# Altium footprint library SparkFun-Connectors.PCBLIB: 305 footprints (part 9 of 20)
Each footprint in its own frame and in the unit in brackets; x right, y up, seen from the top. Pads: shape width x height; smd on the part's side, far side on the other; paste and mask are expansions set on the pad; w line width, h text height; cw(c..) or ccw(c..) is an arc to the next point about the centre after c.
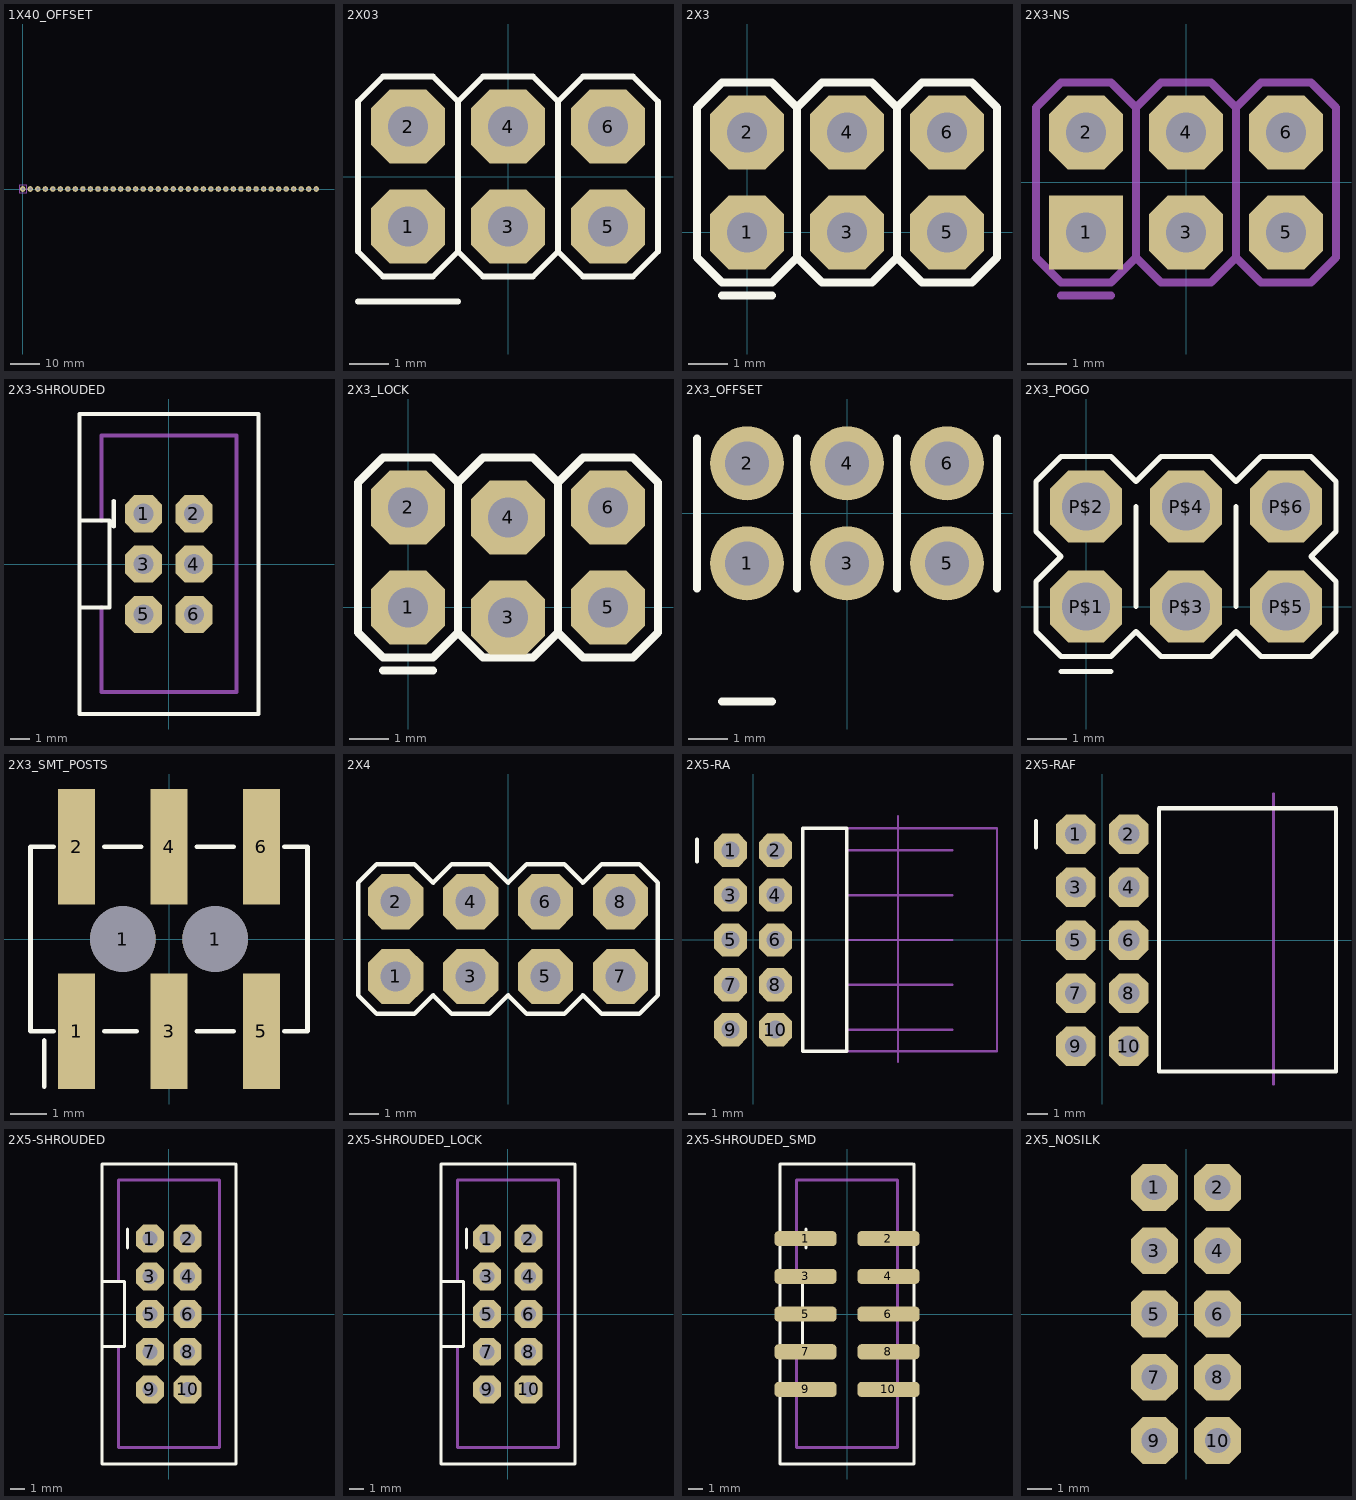
[diagram p8: the footprints below, top view; thin cyan lines are the x and y axes]

## 1X40_OFFSET [mil]
pads (40):
  round 74 hole 40: 1(0,0) 2(100,0) 3(200,0) 4(300,0) 5(400,0) 6(500,0) 7(600,0) 8(700,0) 9(800,0) 10(900,0) 11(1000,0) 12(1100,0) 13(1200,0) 14(1300,0) 15(1400,0) 16(1500,0) 17(1600,0) 18(1700,0) 19(1800,0) 20(1900,0) 21(2000,0) 22(2100,0) 23(2200,0) 24(2300,0) 25(2400,0) 26(2500,0) 27(2600,0) 28(2700,0) 29(2800,0) 30(2900,0) 31(3000,0) 32(3100,0) 33(3200,0) 34(3300,0) 35(3400,0) 36(3500,0) 37(3600,0) 38(3700,0) 39(3800,0) 40(3900,0)
Mechanical 14:
  lines w5: -50,-50 -50,50 50,50 50,-50 -50,-50
Mechanical 16:
  rectangle: 590,-10 610,10
  rectangle: 490,-10 510,10
  rectangle: 390,-10 410,10
  rectangle: 290,-10 310,10
  rectangle: 190,-10 210,10
  rectangle: 90,-10 110,10
  rectangle: -10,-10 10,10
  rectangle: 1290,-10 1310,10
  rectangle: 1190,-10 1210,10
  rectangle: 1090,-10 1110,10
  rectangle: 990,-10 1010,10
  rectangle: 890,-10 910,10
  rectangle: 790,-10 810,10
  rectangle: 690,-10 710,10
  rectangle: 1390,-10 1410,10
  rectangle: 1490,-10 1510,10
  rectangle: 1590,-10 1610,10
  rectangle: 1690,-10 1710,10
  rectangle: 1790,-10 1810,10
  rectangle: 1890,-10 1910,10
  rectangle: 2090,-10 2110,10
  rectangle: 1990,-10 2010,10
  rectangle: 2190,-10 2210,10
  rectangle: 2290,-10 2310,10
  rectangle: 2390,-10 2410,10
  rectangle: 2490,-10 2510,10
  rectangle: 2590,-10 2610,10
  rectangle: 2690,-10 2710,10
  rectangle: 2790,-10 2810,10
  rectangle: 2890,-10 2910,10
  rectangle: 2990,-10 3010,10
  rectangle: 3090,-10 3110,10
  rectangle: 3190,-10 3210,10
  rectangle: 3290,-10 3310,10
  rectangle: 3390,-10 3410,10
  rectangle: 3490,-10 3510,10
  rectangle: 3590,-10 3610,10
  rectangle: 3690,-10 3710,10
  rectangle: 3790,-10 3810,10
  rectangle: 3890,-10 3910,10

## 2X03 [mil]
pads (6):
  oct 74x74 hole 40: 1(-100,-50) 2(-100,50) 3(0,-50) 4(0,50) 5(100,-50) 6(100,50)
Top Overlay:
  lines w6: -150,-125 -50,-125 ; -50,-75 -75,-100 -125,-100 -150,-75 -150,75 -125,100 -75,100 -50,75 ; -50,-75 -25,-100 25,-100 50,-75 ; -50,-75 -50,75 ; -50,75 -25,100 25,100 50,75 ; 50,-75 50,75 ; 50,-75 75,-100 125,-100 150,-75 150,75 125,100 75,100 50,75
Mechanical 16:
  rectangle: -110,-60 -90,-40
  rectangle: -110,40 -90,60
  rectangle: -10,40 10,60
  rectangle: -10,-60 10,-40
  rectangle: 90,40 110,60
  rectangle: 90,-60 110,-40

## 2X3 [mil]
pads (6):
  oct 74x74 hole 40: 1(0,0) 2(0,100) 3(100,0) 4(100,100) 5(200,0) 6(200,100)
Top Overlay:
  lines w8: -25,-63.19 25,-63.19 ; 50,-25 25,-50 -25,-50 -50,-25 -50,125 -25,150 25,150 50,125 ; 50,-25 75,-50 125,-50 150,-25 ; 50,-25 50,125 ; 50,125 75,150 125,150 150,125 ; 150,-25 175,-50 225,-50 250,-25 250,125 225,150 175,150 150,125 ; 150,-25 150,125
Mechanical 16:
  rectangle: -10,-10 10,10
  rectangle: -10,90 10,110
  rectangle: 90,90 110,110
  rectangle: 90,-10 110,10
  rectangle: 190,90 210,110
  rectangle: 190,-10 210,10

## 2X3-NS [mil]
pads (6):
  rect 74x74 hole 40: 1(-100,-50)
  oct 74x74 hole 40: 2(-100,50) 3(0,-50) 4(0,50) 5(100,-50) 6(100,50)
Mechanical 16:
  rectangle: -110,-60 -90,-40
  rectangle: -110,40 -90,60
  rectangle: -10,40 10,60
  rectangle: -10,-60 10,-40
  rectangle: 90,40 110,60
  rectangle: 90,-60 110,-40
  lines w8: -125,-113.19 -75,-113.19 ; -50,-75 -75,-100 -125,-100 -150,-75 -150,75 -125,100 -75,100 -50,75 ; -50,-75 -25,-100 25,-100 50,-75 ; -50,-75 -50,75 ; -50,75 -25,100 25,100 50,75 ; 50,-75 75,-100 125,-100 150,-75 150,75 125,100 75,100 50,75 ; 50,-75 50,75

## 2X3-SHROUDED [mil]
pads (6):
  oct 74x74 hole 40: 1(-50,100) 2(50,100) 3(-50,0) 4(50,0) 5(-50,-100) 6(50,-100)
Top Overlay:
  lines w8: -109.25,75 -109.25,125 ; 174,298 -177.17,298 -177.17,87 ; 178,298 178,-297.64 -177.17,-297.64 -177.17,-86.61 ; -177.17,-86.61 -177.17,87 ; -177.17,-86.61 -118.11,-86.61 -118.11,87 -177.17,87
Mechanical 16:
  rectangle: 40,90 60,110
  rectangle: -60,90 -40,110
  rectangle: 40,-10 60,10
  rectangle: -60,-10 -40,10
  rectangle: 40,-110 60,-90
  rectangle: -60,-110 -40,-90
  rectangle: -60,-110 -40,-90
  rectangle: 40,-110 60,-90
  lines w8: -133.86,-86.61 -133.86,-254.33 134,-254.33 134,255 -133.86,255 -133.86,87

## 2X3_LOCK [mil]
pads (6):
  oct 74x74 hole 40: 1(0,0) 2(0,100) 3(100,-10) 4(100,90) 5(200,0) 6(200,100)
Top Overlay:
  lines w8: -25,-63.19 25,-63.19 ; 50,-25 25,-50 -25,-50 -50,-25 -50,125 -25,150 25,150 50,125 ; 50,-25 75,-50 125,-50 150,-25 ; 50,-25 50,125 ; 50,125 75,150 125,150 150,125 ; 150,-25 175,-50 225,-50 250,-25 250,125 225,150 175,150 150,125 ; 150,-25 150,125
Mechanical 16:
  rectangle: -10,-10 10,10
  rectangle: -10,90 10,110
  rectangle: 90,90 110,110
  rectangle: 90,-10 110,10
  rectangle: 190,90 210,110
  rectangle: 190,-10 210,10

## 2X3_OFFSET [mil]
pads (6):
  round 74 hole 44: 1(-100,-50) 2(-100,50) 3(0,-50) 4(0,50) 5(100,-50) 6(100,50)
Top Overlay:
  lines w8: -150,-75 -150,75 ; -125,-188.19 -75,-188.19 ; -50,-75 -50,75 ; 50,-75 50,75 ; 150,-75 150,75
Mechanical 16:
  rectangle: -110,-60 -90,-40
  rectangle: -110,40 -90,60
  rectangle: -10,40 10,60
  rectangle: -10,-60 10,-40
  rectangle: 90,40 110,60
  rectangle: 90,-60 110,-40

## 2X3_POGO [mil]
pads (6):
  oct 72x72 hole 48: P$1(0,0) P$2(0,100) P$3(100,0) P$4(100,100) P$5(200,0) P$6(200,100)
Top Overlay:
  lines w5: -25,-65 25,-65 ; 50,0 50,100 ; 150,0 150,100 ; -50,-25 -25,-50 25,-50 50,-25 75,-50 125,-50 150,-25 175,-50 225,-50 250,-25 250,25 225,50 250,75 250,125 225,150 175,150 150,125 125,150 75,150 50,125 25,150 -25,150 -50,125 -50,75 -25,50 -50,25 -50,-25

## 2X3_SMT_POSTS [mil]
pads (8):
  rect 40x125 smd: 1(-100,-100) 2(-100,100) 3(0,-100) 4(0,100) 5(100,-100) 6(100,100)
  round 71 hole 71: 1(-50,0) 1(50,0)
Top Overlay:
  lines w5: -135,-160 -135,-110 ; -125,-100 -150,-100 -150,100 -125,100 ; -70,-100 -35,-100 ; -70,100 -30,100 ; 30,-100 70,-100 ; 30,100 70,100 ; 125,-100 150,-100 150,100 125,100

## 2X4 [mil]
pads (8):
  oct 74x74 hole 40: 1(-150,-50) 2(-150,50) 3(-50,-50) 4(-50,50) 5(50,-50) 6(50,50) 7(150,-50) 8(150,50)
Top Overlay:
  lines w6: -200,-75 -175,-100 -125,-100 -100,-75 -75,-100 -25,-100 0,-75 25,-100 75,-100 100,-75 125,-100 175,-100 200,-75 200,75 175,100 125,100 100,75 75,100 25,100 0,75 -25,100 -75,100 -100,75 -125,100 -175,100 -200,75 -200,-75
Mechanical 16:
  rectangle: -160,-60 -140,-40
  rectangle: -160,40 -140,60
  rectangle: -60,40 -40,60
  rectangle: -60,-60 -40,-40
  rectangle: 40,40 60,60
  rectangle: 40,-60 60,-40
  rectangle: 140,40 160,60
  rectangle: 140,-60 160,-40

## 2X5-RA [mil]
pads (10):
  oct 74x74 hole 40: 1(-50,200) 2(50,200) 3(-50,100) 4(50,100) 5(-50,0) 6(50,0) 7(-50,-100) 8(50,-100) 9(-50,-200) 10(50,-200)
Top Overlay:
  lines w8: -125,175 -125,225 ; 111,-248.03 209,-248.03 209,249 111,249 111,-248.03
Mechanical 16:
  region: -60,210 -60,190 -40,190 -40,210
  region: 40,210 40,190 60,190 60,210
  region: 40,110 40,90 60,90 60,110
  region: -60,110 -60,90 -40,90 -40,110
  region: 40,10 40,-10 60,-10 60,10
  region: -60,10 -60,-10 -40,-10 -40,10
  region: 40,-90 40,-110 60,-110 60,-90
  region: -60,-90 -60,-110 -40,-110 -40,-90
  region: 40,-190 40,-210 60,-210 60,-190
  region: -60,-190 -60,-210 -40,-210 -40,-190
  region: -60,-90 -60,-110 -40,-110 -40,-90
  region: 40,-90 40,-110 60,-110 60,-90
  lines w5: 209,-248.03 544,-248.03 544,249 209,249 ; 209,-200 445,-200 ; 209,-100 445,-100 ; 209,0 445,0 ; 209,100 445,100 ; 209,200 445,200 ; 323,-271.65 323,276

## 2X5-RAF [mil]
pads (10):
  oct 74x74 hole 40: 1(-50,200) 2(50,200) 3(-50,100) 4(50,100) 5(-50,0) 6(50,0) 7(-50,-100) 8(50,-100) 9(-50,-200) 10(50,-200)
Top Overlay:
  lines w8: -125,175 -125,225 ; 107,-248.03 441,-248.03 441,249 107,249 107,-248.03
Mechanical 16:
  region: -60,210 -60,190 -40,190 -40,210
  region: 40,210 40,190 60,190 60,210
  region: 40,110 40,90 60,90 60,110
  region: -60,110 -60,90 -40,90 -40,110
  region: 40,10 40,-10 60,-10 60,10
  region: -60,10 -60,-10 -40,-10 -40,10
  region: 40,-90 40,-110 60,-110 60,-90
  region: -60,-90 -60,-110 -40,-110 -40,-90
  region: 40,-190 40,-210 60,-210 60,-190
  region: -60,-190 -60,-210 -40,-210 -40,-190
  region: -60,-90 -60,-110 -40,-110 -40,-90
  region: 40,-90 40,-110 60,-110 60,-90
  lines w5: 323,-271.65 323,276

## 2X5-SHROUDED [mil]
pads (10):
  oct 74x74 hole 40: 1(-50,200) 2(50,200) 3(-50,100) 4(50,100) 5(-50,0) 6(50,0) 7(-50,-100) 8(50,-100) 9(-50,-200) 10(50,-200)
Top Overlay:
  lines w8: -109.25,175 -109.25,225 ; 174,398 -177.17,398 -177.17,87 ; 178,398 178,-397.64 -177.17,-397.64 -177.17,-86.61 ; -177.17,-86.61 -177.17,87 ; -177.17,-86.61 -118.11,-86.61 -118.11,87 -177.17,87
Mechanical 16:
  rectangle: -60,190 -40,210
  rectangle: 40,190 60,210
  rectangle: 40,90 60,110
  rectangle: -60,90 -40,110
  rectangle: 40,-10 60,10
  rectangle: -60,-10 -40,10
  rectangle: 40,-110 60,-90
  rectangle: -60,-110 -40,-90
  rectangle: 40,-210 60,-190
  rectangle: -60,-210 -40,-190
  rectangle: -60,-110 -40,-90
  rectangle: 40,-110 60,-90
  lines w8: -133.86,-86.61 -133.86,-354.33 134,-354.33 134,355 -133.86,355 -133.86,87

## 2X5-SHROUDED_LOCK [mil]
pads (10):
  oct 74x74 hole 40: 1(-55,200) 2(55,200) 3(-55,100) 4(55,100) 5(-55,0) 6(55,0) 7(-55,-100) 8(55,-100) 9(-55,-200) 10(55,-200)
Top Overlay:
  lines w8: -109.25,175 -109.25,225 ; 174,398 -177.17,398 -177.17,87 ; 178,398 178,-397.64 -177.17,-397.64 -177.17,-86.61 ; -177.17,-86.61 -177.17,87 ; -177.17,-86.61 -118.11,-86.61 -118.11,87 -177.17,87
Mechanical 16:
  region: -60,210 -60,190 -40,190 -40,210
  region: 40,210 40,190 60,190 60,210
  region: 40,110 40,90 60,90 60,110
  region: -60,110 -60,90 -40,90 -40,110
  region: 40,10 40,-10 60,-10 60,10
  region: -60,10 -60,-10 -40,-10 -40,10
  region: 40,-90 40,-110 60,-110 60,-90
  region: -60,-90 -60,-110 -40,-110 -40,-90
  region: 40,-190 40,-210 60,-210 60,-190
  region: -60,-190 -60,-210 -40,-210 -40,-190
  region: -60,-90 -60,-110 -40,-110 -40,-90
  region: 40,-90 40,-110 60,-110 60,-90
  lines w8: -133.86,-86.61 -133.86,-354.33 134,-354.33 134,355 -133.86,355 -133.86,87

## 2X5-SHROUDED_SMD [mil]
pads (10):
  rrect50% 164x40 smd: 1(-110,200) 2(110,200) 3(-110,100) 4(110,100) 5(-110,0) 6(110,0) 7(-110,-100) 8(110,-100) 9(-110,-200) 10(110,-200)
Top Overlay:
  lines w8: -109.25,175 -109.25,225 ; 174,398 -177.17,398 -177.17,87 ; 178,398 178,-397.64 -177.17,-397.64 -177.17,-86.61 ; -177.17,-86.61 -177.17,87 ; -177.17,-86.61 -118.11,-86.61 -118.11,87 -177.17,87
Mechanical 16:
  rectangle: -60,190 -40,210
  rectangle: 40,190 60,210
  rectangle: 40,90 60,110
  rectangle: -60,90 -40,110
  rectangle: 40,-10 60,10
  rectangle: -60,-10 -40,10
  rectangle: 40,-110 60,-90
  rectangle: -60,-110 -40,-90
  rectangle: 40,-210 60,-190
  rectangle: -60,-210 -40,-190
  rectangle: -60,-110 -40,-90
  rectangle: 40,-110 60,-90
  lines w8: -133.86,-86.61 -133.86,-354.33 134,-354.33 134,355 -133.86,355 -133.86,87

## 2X5_NOSILK [mil]
pads (10):
  oct 74x74 hole 40: 1(-50,200) 2(50,200) 3(-50,100) 4(50,100) 5(-50,0) 6(50,0) 7(-50,-100) 8(50,-100) 9(-50,-200) 10(50,-200)
Mechanical 16:
  rectangle: -60,190 -40,210
  rectangle: 40,190 60,210
  rectangle: 40,90 60,110
  rectangle: -60,90 -40,110
  rectangle: -60,-10 -40,10
  rectangle: 40,-210 60,-190
  rectangle: -60,-210 -40,-190
  rectangle: -60,-110 -40,-90
  rectangle: 40,-110 60,-90
  rectangle: 40,-10 60,10